# EAGLE library part WS_OLED128X64 (library dl9sec_public)
WaveShare 0.96" OLED yellow/blue https://www.waveshare.com/0.96inch-oled-b.htm https://www.waveshare.com/wiki/0.96inch_OLED_(B) 1/4 yellow, 3/4 blue 3-/4-wire-SPI, I2C SSD1306
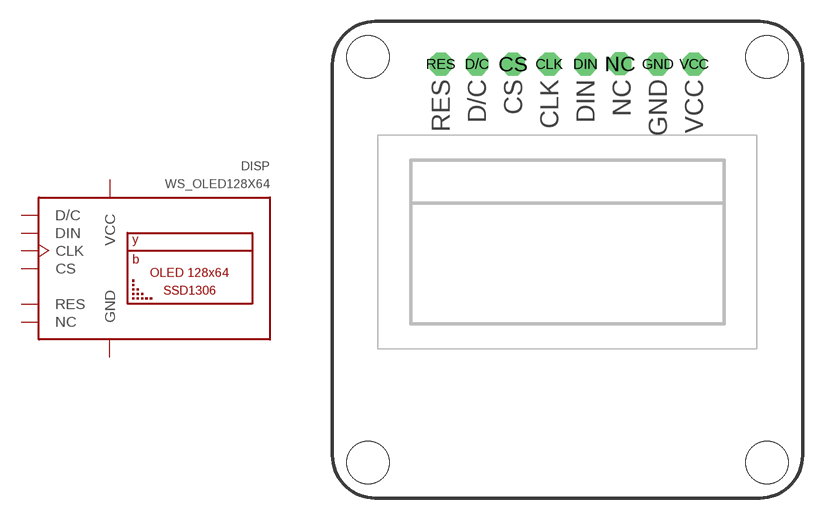
[diagram p2: symbol with the pads of WS_OLED128X64; footprint WS_OLED128X64]

Designator prefix DISP

## WS_OLED128X64  [WS_OLED128X64]
CLK  CLK  in
CS  CS  in
D/C  D/C  in
DIN  DIN  in
GND  GND  pwr
NC  NC  nc
RES  RES  in
VCC  VCC  pwr

## Footprint WS_OLED128X64 (pad centres in mm)
WaveShare 0.96" OLED yellow/blue https://www.waveshare.com/0.96inch-oled-b.htm https://www.waveshare.com/wiki/0.96inch_OLED_(B) 1/4 yellow, 3/4 blue 3-/4-wire-SPI, I2C SSD1306
drill 0.8 pad 1.6 octagon: CLK -1.27,12.5; CS -3.81,12.5; D/C -6.35,12.5; DIN 1.27,12.5; GND 6.35,12.5; NC 3.69,12.52; RES -8.89,12.5; VCC 8.89,12.5
hole 3 at -14,-15.5
hole 3 at 14,-15.5
hole 3 at 14,13
hole 3 at -14,13